# EAGLE library part TL971DR (library charleses_parts_bin)
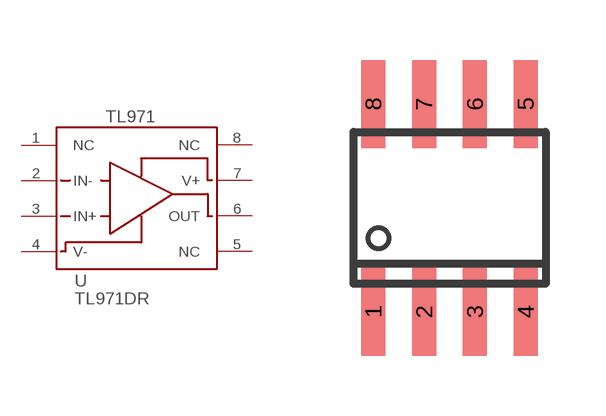
[diagram p8: symbol with the pads of SOIC8; footprint SOIC8]

Designator prefix U

## TL971DR  [SOIC8]
1  NC
2  IN-
3  IN+
4  V-
5  NC
6  OUT
7  V+
8  NC

## Footprint SOIC8 (pad centres in mm)
Small Outline IC
smd 0.6 x 2.2: 1 -1.905,-2.6; 2 -0.635,-2.6; 3 0.635,-2.6; 4 1.905,-2.6; 5 1.905,2.6; 6 0.635,2.6; 7 -0.635,2.6; 8 -1.905,2.6